# Altium schematic symbol library MAX232IDE4.SchLib: 1 symbol
Pins are listed as number, name and electrical type; pins without a type are passive.

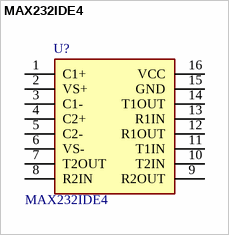
[diagram p0: symbol MAX232IDE4]

## MAX232IDE4
designator U?
RS-232 Interface IC Dual EIA-232 Driver/ Receiver; Manufacturer_Name: Texas Instruments; Geometry.Height: 1.75mm; Manufacturer_Part_Number: MAX232IDE4; Mouser Part Number: 595-MAX232IDE4; Mouser Price/Stock: https://www.mouser.com/Search/Refine.aspx?Keyword=595-MAX232IDE4; Arrow Part Number: MAX232IDE4; Arrow Price/Stock: https://www.arrow.com/en/products/max232ide4/texas-instruments; Datasheet Link: https://www.ti.com/lit/ds/symlink/max232.pdf?HQS=dis-mous-null-mousermode-dsf-pf-null-wwe&ts=1638532655190&ref_url=https%253A%252F%252Fwww.mouser.in%252F
footprint SOIC127P600X175-16N
pins: 1 C1+, 2 VS+, 3 C1-, 4 C2+, 5 C2-, 6 VS-, 7 T2OUT, 8 R2IN, 9 R2OUT, 10 T2IN, 11 T1IN, 12 R1OUT, 13 R1IN, 14 T1OUT, 15 GND, 16 VCC